# Altium footprint library USB_PD_DVD.PcbLib: 25 footprints (part 1 of 2)
Each footprint in its own frame and in the unit in brackets; x right, y up, seen from the top. Pads: shape width x height; smd on the part's side, far side on the other; paste and mask are expansions set on the pad; w line width, h text height; cw(c..) or ccw(c..) is an arc to the next point about the centre after c.
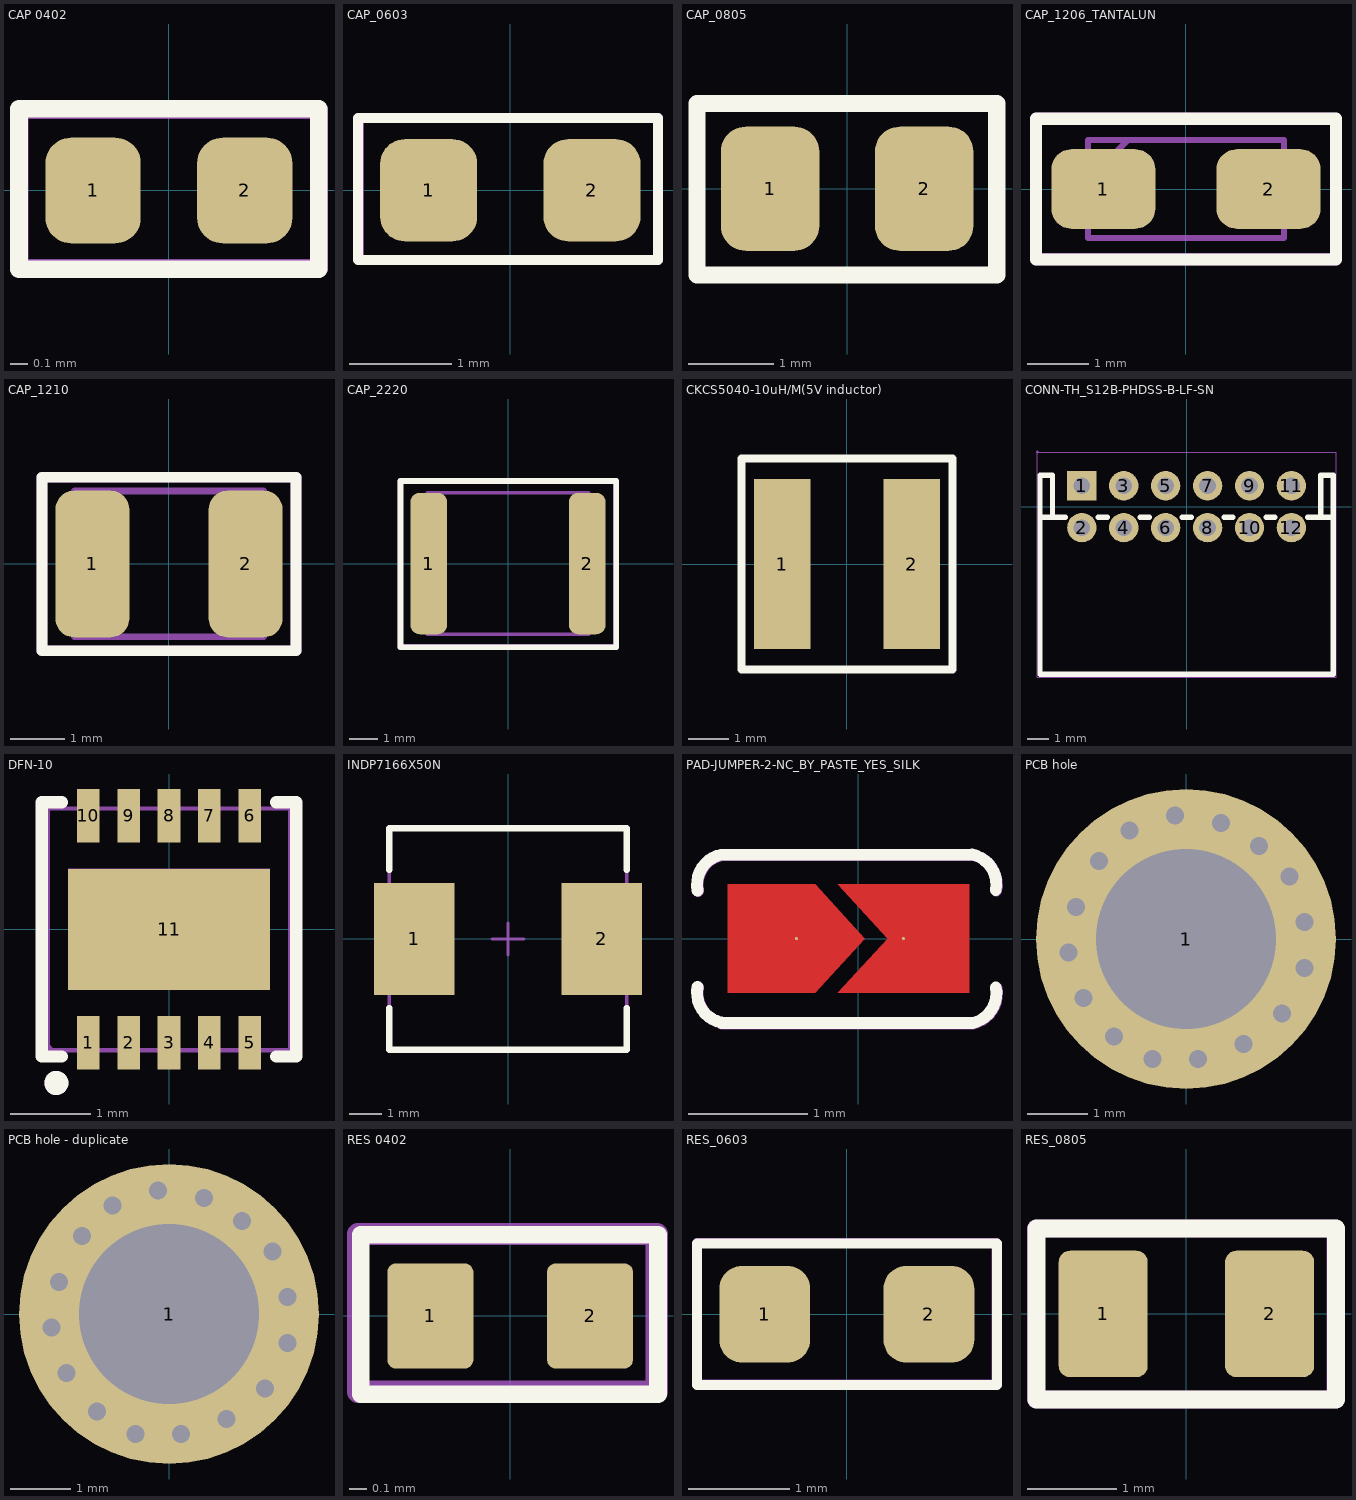
[diagram p0: the footprints below, top view; thin cyan lines are the x and y axes]

## CAP 0402 [mm]
pads (2):
  rrect53% 0.54x0.6 smd: 1(-0.43,0) 2(0.43,0)
Top Overlay:
  lines w0.1: -0.85,-0.447 0.85,-0.447 0.85,0.464 -0.85,0.464 -0.85,-0.447
Top Assembly:
  lines w0.1: -0.846,-0.439 0.851,-0.439 0.851,0.456 -0.846,0.456 -0.846,-0.439
  text ".Designator" at -0.846,-0.251 h1
3D body "step_temp.STEP": height 0.55, standoff 0, extent -0.5,-0.25 0.5,0.25

## CAP_0603 [mm]
pads (2):
  rrect50% 0.95x1 smd mask+0.102: 1(-0.8,0) 2(0.8,0)
Top Overlay:
  lines w0.1: -1.493,-0.682 1.446,-0.682 1.446,0.709 -1.493,0.709 -1.493,-0.682
Top Assembly:
  lines w0.1: -1.484,-0.684 -1.484,0.709 1.447,0.709 1.447,-0.684 -1.484,-0.684
  text ".Designator" at -0.883,-0.197 h1
3D body "User Library-Chip Capacitor2.x_b": height 0.86, standoff 0, extent -0.8,-0.4 0.8,0.4

## CAP_0805 [mm]
pads (2):
  rrect50% 1.15x1.45 smd: 1(-0.9,0) 2(0.9,0)
Top Overlay:
  lines w0.2: -1.753,-1.006 -1.753,0.994 1.747,0.994 1.747,-1.006 -1.753,-1.006
Top Assembly:
  lines w0.1: -1.75,-1 -1.75,1 1.75,1 1.75,-1 -1.75,-1
  text ".Designator" at -1.4,-0.111 h1
3D body "User Library-CAP0805-1.x_b": height 1.25, standoff 0, extent -0.991,-0.634 1.009,0.616

## CAP_1206_TANTALUN [mm]
pads (2):
  rrect50% 1.7x1.3 smd: 1(-1.35,0) 2(1.35,0)
Top Overlay:
  lines w0.2: -2.45,-1.15 2.45,-1.15 2.45,1.15 -2.45,1.15 -2.45,-1.15
Top Assembly:
  text ".Designator" at -0.322,0.018 h1
Mechanical 13:
  lines w0.1: -1.6,0.15 -0.95,0.8 ; -1.6,-0.8 -1.6,0.8 1.6,0.8 1.6,-0.8 -1.6,-0.8
  lines w0.2: -2.449,-1.149 2.451,-1.149 2.451,1.151 -2.449,1.151 -2.449,-1.149
3D body "TMCMA0J107MTRF.stp": height 1.8, standoff 0, extent -1.7,-0.9 1.7,0.9

## CAP_1210 [mm]
pads (2):
  rrect50% 1.37x2.72 smd: 1(-1.421,0) 2(1.421,0)
Top Overlay:
  lines w0.2: -2.356,-1.609 -2.356,1.607 2.354,1.607 2.354,-1.609 -2.356,-1.609
Top Assembly:
  lines w0.127: -1.75,-1.35 1.75,-1.35 1.75,1.35 -1.75,1.35 -1.75,-1.35
  lines w0.2: -2.355,-1.608 -2.355,1.608 2.355,1.608 2.355,-1.608 -2.355,-1.608
  text ".Designator" at -0.322,-0.109 h1
3D body "step_temp.STEP": height 2.2, standoff 0, extent -1.6,-1.25 1.6,1.25

## CAP_2220 [mm]
height 3.1
pads (2):
  rrect50% 1.3x5 smd: 1(-2.8,0) 2(2.8,0)
Top Overlay:
  lines w0.2: -3.8,-2.955 3.82,-2.955 3.82,2.917 -3.8,2.917 -3.8,-2.955
Top Assembly:
  lines w0.127: -2.85,-2.5 -2.85,2.5 2.85,2.5 2.85,-2.5 -2.85,-2.5
  lines w0.2: -3.81,-2.951 3.81,-2.951 3.81,2.921 -3.81,2.921 -3.81,-2.951
  text ".Designator" at -0.322,-0.109 h1
3D body "User Library-CAPC5750.x_b": height 2.5, standoff 0, extent -2.85,-2.413 2.85,2.587

## CKCS5040-10uH/M(5V inductor) [mm]
height 4
pads (2):
  rect 1.4x4.2 smd: 1(-1.6,0) 2(1.6,0)
Top Overlay:
  lines w0.2: -2.6,-2.6 2.6,-2.6 ; -2.6,-2.6 -2.6,2.6 2.6,2.6 2.6,-2.6 ; -2.6,-2.6 2.6,-2.6
Top Assembly:
  lines w0.1: -2.6,-2.6 2.6,-2.6 2.6,2.6 -2.6,2.6 -2.6,-2.6
  text "'.Designator'" at -0.005,0.006 h0.5
3D body "INDP2523X23N.step": height 4.1, standoff 0, extent -2.6,-2.5 2.6,2.5

## CONN-TH_S12B-PHDSS-B-LF-SN [mm]
pads (12):
  rect 1.4x1.4 hole 0.8: 1(-5,1)
  round 1.4 hole 0.8: 2(-5,-1) 3(-3,1) 4(-3,-1) 5(-1,1) 6(-1,-1) 7(1,1) 8(1,-1) 9(3,1) 10(3,-1) 11(5,1) 12(5,-1)
Top Overlay:
  lines w0.254: -7,-0.5 -5.785,-0.5 ; -6.401,-0.5 -6.401,1.5 -7,1.5 -7,-8 7,-8 7,1.5 6.401,1.5 6.401,-0.5 ; -4.215,-0.5 -3.785,-0.5 ; -2.215,-0.5 -1.785,-0.5 ; -0.215,-0.5 0.215,-0.5 ; 1.785,-0.5 2.215,-0.5 ; 3.785,-0.5 4.215,-0.5 ; 5.785,-0.5 7,-0.5
Top Assembly:
  drawing of 17 lines, arcs and shapes, not listed
  text ".Designator" at -2.105,-3.334 h1
3D body "S12B-PHDSS-B-LF--SN---3DModel-STEP-56544.STEP": height 5, standoff -3, extent -6.779,-8.024 7.121,1.476

## DFN-10 [mm]
pads (11):
  rect 0.28x0.665 smd paste+0 mask+0.05: 1(-1,-1.407) 2(-0.5,-1.407) 3(0,-1.407) 4(0.5,-1.407) 5(1,-1.407) 6(1,1.407) 7(0.5,1.407) 8(0,1.407) 9(-0.5,1.407) 10(-1,1.407)
  rect 2.5x1.5 smd paste+0 mask+0.05: 11(0,0)
Top Overlay:
  circle w0.15: c-1.397,-1.905 r0.075
  lines w0.152: -1.331,-1.576 -1.576,-1.576 -1.576,1.576 -1.331,1.576 ; 1.331,-1.576 1.576,-1.576 1.576,1.576 1.331,1.576
Top Assembly:
  circle w0.15: c-1.397,-1.905 r0.075
  region: -1.25,0.75 1.25,0.75 1.25,-0.75 -1.25,-0.75
  region: 0.38,-1.5 0.38,-1.1 0.62,-1.1 0.62,-1.5
  region: -0.62,1.5 -0.62,1.1 -0.38,1.1 -0.38,1.5
  region: -1.12,1.5 -1.12,1.1 -0.88,1.1 -0.88,1.5
  region: 0.88,-1.5 0.88,-1.1 1.12,-1.1 1.12,-1.5
  region: -1.44,-1.5 -1.44,-1.525 -1.475,-1.56 -1.525,-1.56 -1.56,-1.525 -1.56,-1.5 -1.56,-1.475 -1.525,-1.44 -1.475,-1.44 -1.44,-1.475 -1.44,-1.5
  region: 0.88,1.5 0.88,1.1 1.12,1.1 1.12,1.5
  region: -1.12,-1.5 -1.12,-1.1 -0.88,-1.1 -0.88,-1.5
  region: -0.62,-1.5 -0.62,-1.1 -0.38,-1.1 -0.38,-1.5
  region: 0.38,1.5 0.38,1.1 0.62,1.1 0.62,1.5
  region: -0.12,1.5 -0.12,1.1 0.12,1.1 0.12,1.5
  region: -0.12,-1.5 -0.12,-1.1 0.12,-1.1 0.12,-1.5
  lines w0.051: -1.5,-1.5 1.5,-1.5 1.5,1.5 -1.5,1.5 -1.5,-1.5
  text ".Designator" at -1.846,2.05 h1
3D body "User Library-DFN10(3x3).x_t": height 0.76, standoff 0, extent -1.503,-1.495 1.497,1.507

## INDP7166X50N [mm] "Precision Wire Wound Inductor, 2-Leads, Body 7.10x6.60mm, IPC Medium Density"
height 5
pads (2):
  rect 2.5x3.5 smd: 1(-2.925,0) 2(2.925,0)
Top Overlay:
  lines w0.2: -3.7,-2.15 -3.7,-3.45 3.7,-3.45 3.7,-2.15 ; -3.7,2.15 -3.7,3.45 3.7,3.45 3.7,2.15
Top Assembly:
  lines w0.1: -0.5,0 0.5,0 ; 0,-0.5 0,0.5 ; -3.7,-3.45 3.7,-3.45 3.7,3.45 -3.7,3.45 -3.7,-3.45
  text ".Designator" at -2.251,2.115 h1
3D body "INDP7166X50N.step": height 5.1, standoff 0, extent -3.65,-3.3 3.65,3.3

## PAD-JUMPER-2-NC_BY_PASTE_YES_SILK [mil]
pads (2):
  round 1 smd mask+4: 1(-20.53,0.09) 2(14.97,0.09)
Top Layer:
  region: -14.28,-17.91 -43.28,-17.91 -43.28,18.09 -14.28,18.09 2.22,0.09
  region: -6.78,18.09 36.72,18.09 36.72,-17.91 -6.78,-17.91 9.72,0.09
Top Overlay:
  lines w3.94: -53.28,-15.91 ccw(c-43.44,-17.88) -45.4,-27.72 ; -53.28,16.09 cw(c-43.44,18.07) -45.4,27.91 37.69,27.91 ; -45.4,-27.91 37.72,-27.91 ccw(c35.76,-18.07) 45.6,-16.09 ; 37.69,28 cw(c35.73,18.16) 45.56,16.19
Top Paste:
  region: 34.47,17.81 17.57,17.81 15.57,15.84 15.57,6.87 15.57,-6.12 15.57,-15.65 17.57,-17.62 34.47,-17.62 36.44,-15.65 36.44,15.84
  region: -23.81,17.81 -40.71,17.81 -42.71,15.84 -42.71,6.87 -42.71,-6.13 -42.71,-15.65 -40.71,-17.62 -23.81,-17.62 -21.84,-15.65 -21.84,15.84
Top Solder:
  region: -14.26,-17.93 -43.26,-17.93 -43.26,18.07 -14.26,18.07 2.24,0.07
  region: -6.84,18.06 36.66,18.06 36.66,-17.94 -6.84,-17.94 9.66,0.06
Top Assembly:
  lines w3.94: -53.08,-16.08 ccw(c-43.24,-18.05) -45.2,-27.89 ; -53.08,15.92 cw(c-43.24,17.89) -45.2,27.73 37.89,27.73 ; -45.2,-28.08 37.92,-28.08 ccw(c35.96,-18.24) 45.8,-16.27 ; 37.89,27.83 cw(c35.93,17.99) 45.76,16.02
  text ".Designator" at -40,-12.57 h39.37

## PCB hole [mm]
pads (1):
  round 5 hole 3: 1(0,0)
via -0.943,1.807 diameter 0.6 hole 0.3
via -1.451,1.299 diameter 0.6 hole 0.3
via -1.832,0.537 diameter 0.6 hole 0.3
via -1.959,-0.225 diameter 0.6 hole 0.3
via -1.705,-0.987 diameter 0.6 hole 0.3
via -1.197,-1.622 diameter 0.6 hole 0.3
via -0.562,-2.003 diameter 0.6 hole 0.3
via 0.2,-2.003 diameter 0.6 hole 0.3
via 0.962,-1.749 diameter 0.6 hole 0.3
via 1.597,-1.241 diameter 0.6 hole 0.3
via 1.978,-0.479 diameter 0.6 hole 0.3
via 1.978,0.283 diameter 0.6 hole 0.3
via 1.724,1.045 diameter 0.6 hole 0.3
via 1.216,1.553 diameter 0.6 hole 0.3
via 0.581,1.934 diameter 0.6 hole 0.3
via -0.181,2.061 diameter 0.6 hole 0.3

## PCB hole - duplicate [mm]
pads (1):
  round 5 hole 3: 1(0,0)
via -0.943,1.807 diameter 0.6 hole 0.3
via -1.451,1.299 diameter 0.6 hole 0.3
via -1.832,0.537 diameter 0.6 hole 0.3
via -1.959,-0.225 diameter 0.6 hole 0.3
via -1.705,-0.987 diameter 0.6 hole 0.3
via -1.197,-1.622 diameter 0.6 hole 0.3
via -0.562,-2.003 diameter 0.6 hole 0.3
via 0.2,-2.003 diameter 0.6 hole 0.3
via 0.962,-1.749 diameter 0.6 hole 0.3
via 1.597,-1.241 diameter 0.6 hole 0.3
via 1.978,-0.479 diameter 0.6 hole 0.3
via 1.978,0.283 diameter 0.6 hole 0.3
via 1.724,1.045 diameter 0.6 hole 0.3
via 1.216,1.553 diameter 0.6 hole 0.3
via 0.581,1.934 diameter 0.6 hole 0.3
via -0.181,2.061 diameter 0.6 hole 0.3

## RES 0402 [mm]
pads (2):
  rrect20% 0.49x0.6 smd: 1(-0.455,0) 2(0.455,0)
Top Overlay:
  lines w0.1: -0.851,-0.446 -0.851,0.462 0.842,0.462 0.842,-0.446 -0.851,-0.446
Top Assembly:
  lines w0.127: -0.868,-0.432 -0.868,0.468 0.835,0.468 0.835,-0.432 -0.868,-0.432
  text ".Designator" at -0.879,-0.307 h1
3D body "2-1879459-5.stp": height 0.36, standoff 0.04, extent -0.5,-0.25 0.5,0.25

## RES_0603 [mm]
pads (2):
  rrect50% 0.9x0.96 smd mask+0.102: 1(-0.814,0) 2(0.814,0)
Top Overlay:
  lines w0.1: -1.486,-0.701 -1.486,0.703 1.489,0.703 1.489,-0.701 -1.486,-0.701
Top Assembly:
  lines w0.1: -1.486,-0.698 1.486,-0.698 1.486,0.704 -1.486,0.704 -1.486,-0.698
  text ".Designator" at -1.249,-0.278 h1
3D body "User Library-User Library-0603_Res1-1.step": height 0.8, standoff 0, extent -1.232,-0.413 1.228,0.387

## RES_0805 [mm]
pads (2):
  rrect25% 1x1.42 smd: 1(-0.935,0) 2(0.935,0)
Top Overlay:
  lines w0.2: -1.685,-0.962 1.681,-0.962 1.681,0.958 -1.685,0.958 -1.685,-0.962
Top Assembly:
  lines w0.2: -1.69,-0.96 -1.69,0.96 1.676,0.96 1.676,-0.96 -1.69,-0.96
  text ".Designator" at -1.789,-0.187 h1
3D body "User Library-RES0805-2.x_b": height 0.55, standoff 0, extent -0.993,-0.58 1.007,0.67